# EAGLE library part 24_PIN_FPC (library Eric Navarrete Custom Parts Feb 2019)
Omron XF2M Series 0.5mm Pitch 24 Way 1 Row Right Angle SMT Female FPC Connector Locking Mechanism, Gold Plated Contacts Source: Datasheet <http://uk.rs-online.com/web/p/products/7315794P>
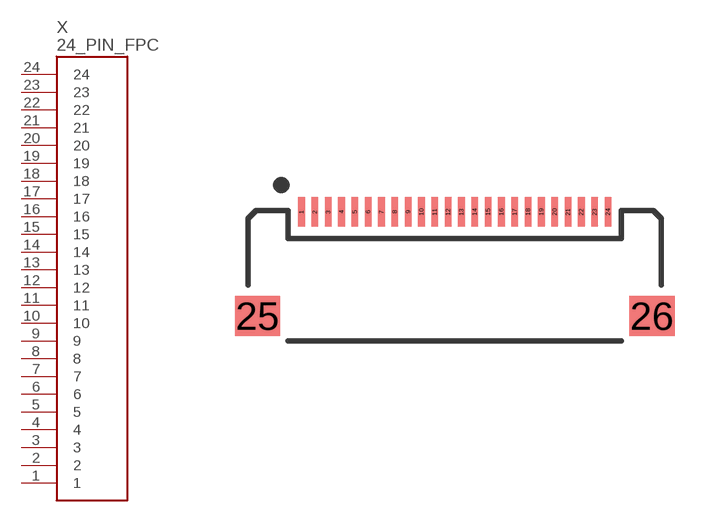
[diagram p1: symbol with the pads of XF2M-2415-1A; footprint XF2M-2415-1A]

Designator prefix X

## 24_PIN_FPCXF2M-2415-1A_ROTARY_FPC_CONNECTOR_0.5MM (DESCRIPTION: Omron XF2M Series 0.5mm Pitch 24 Way 1 Row Right Angle SMT Female FPC Connector Locking Mechanism, Gold Plated Contacts; HEIGHT: mm; MANUFACTURER_NAME: Omron Electronics; MANUFACTURER_PART_NUMBER: xf2m-2415-1a; RS_PART_NUMBER: 7315794P)  [XF2M-2415-1A]
1  1  in
2  2  in
3  3  in
4  4  in
5  5  in
6  6  in
7  7  in
8  8  in
9  9  in
10  10  in
11  11  in
12  12  in
13  13  in
14  14  in
15  15  in
16  16  in
17  17  in
18  18  in
19  19  in
20  20  in
21  21  in
22  22  in
23  23  in
24  24  in

## Footprint XF2M-2415-1A (pad centres in mm)
XF2M-2415-1A
smd 0.25 x 1.1: 1 -5.75,0; 2 -5.25,0; 3 -4.75,0; 4 -4.25,0; 5 -3.75,0; 6 -3.25,0; 7 -2.75,0; 8 -2.25,0; 9 -1.75,0; 10 -1.25,0; 11 -0.75,0; 12 -0.25,0; 13 0.25,0; 14 0.75,0; 15 1.25,0; 16 1.75,0; 17 2.25,0; 18 2.75,0; 19 3.25,0; 20 3.75,0; 21 4.25,0; 22 4.75,0; 23 5.25,0; 24 5.75,0
smd 1.7 x 1.5: 25 -7.4,-3.9; 26 7.4,-3.9